# EAGLE library part MAX208 (library work)
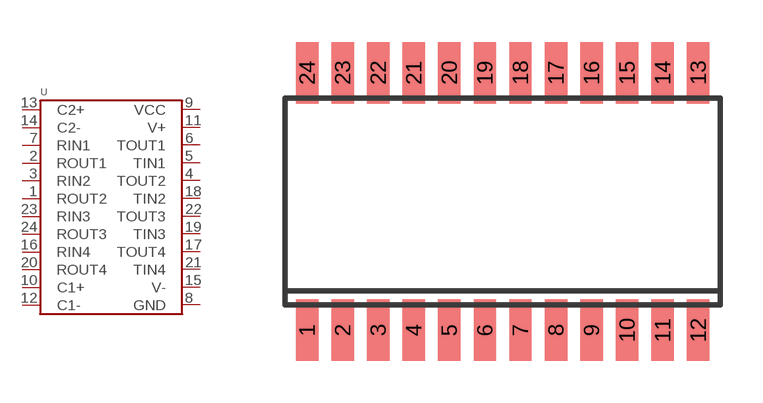
[diagram p9: symbol with the pads of SOIC24; footprint SOIC24]

Designator prefix -

## MAX208  [SOIC24]
1  ROUT2
2  ROUT1
3  RIN2
4  TOUT2
5  TIN1
6  TOUT1
7  RIN1
8  GND
9  VCC
10  C1+
11  V+
12  C1-
13  C2+
14  C2-
15  V-
16  RIN4
17  TOUT4
18  TIN2
19  TIN3
20  ROUT4
21  TIN4
22  TOUT3
23  RIN3
24  ROUT3

## Footprint SOIC24 (pad centres in mm)
smd 0.8 x 2.2: 1 -6.985,-4.6; 2 -5.715,-4.6; 3 -4.445,-4.6; 4 -3.175,-4.6; 5 -1.905,-4.6; 6 -0.635,-4.6; 7 0.635,-4.6; 8 1.905,-4.6; 9 3.175,-4.6; 10 4.445,-4.6; 11 5.715,-4.6; 12 6.985,-4.6; 13 6.985,4.6; 14 5.715,4.6; 15 4.445,4.6; 16 3.175,4.6; 17 1.905,4.6; 18 0.635,4.6; 19 -0.635,4.6; 20 -1.905,4.6; 21 -3.175,4.6; 22 -4.445,4.6; 23 -5.715,4.6; 24 -6.985,4.6